# EAGLE library part FABO-KINOMA (library FaBo-Template)
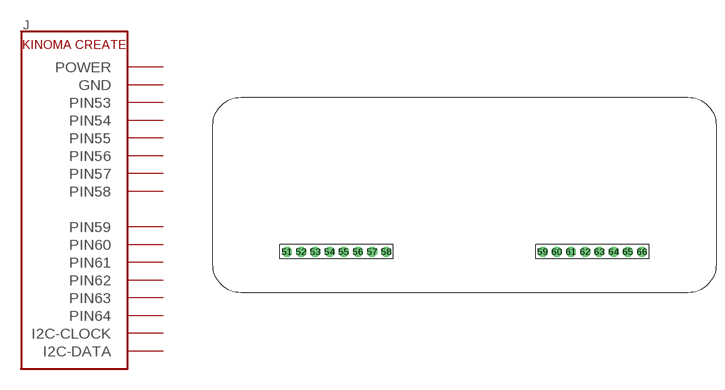
[diagram p1: symbol with the pads of FABO-KINOMA; footprint FABO-KINOMA]

Designator prefix J

## FABO-KINOMA  [FABO-KINOMA]
51  POWER
52  GND
53  PIN53
54  PIN54
55  PIN55
56  PIN56
57  PIN57
58  PIN58
59  PIN59
60  PIN60
61  PIN61
62  PIN62
63  PIN63
64  PIN64
65  I2C-CLOCK
66  I2C-DATA

## Footprint FABO-KINOMA (pad centres in mm)
drill 1 pad 1.778 octagon: 51 -31.75,-10.16; 52 -29.21,-10.16; 53 -26.67,-10.16; 54 -24.13,-10.16; 55 -21.59,-10.16; 56 -19.05,-10.16; 57 -16.51,-10.16; 58 -13.97,-10.16; 59 13.97,-10.16; 60 16.51,-10.16; 61 19.05,-10.16; 62 21.59,-10.16; 63 24.13,-10.16; 64 26.67,-10.16; 65 29.21,-10.16; 66 31.75,-10.16